# Altium schematic symbol library Terminal_Pin_Pcb.SchLib: 1 symbol
Pins are listed as number, name and electrical type; pins without a type are passive.

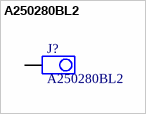
[diagram p0: symbol A250280BL2]

## A250280BL2
designator J?
A250280BL2 - TERMINAL PIN 3X7.2X0.8P:5.08; ComponentLink1Description: Link1; ComponentLink1URL: https://ozdisan.com/connectors-and-interconnects/terminals/quick-disconnects/A250280BL2/517297
footprint A250280BL2
pins: 1